# EAGLE library part VREG-RECOM-R-78A05-1-SMD (library vreg-recom-r-78a05-1-smd)
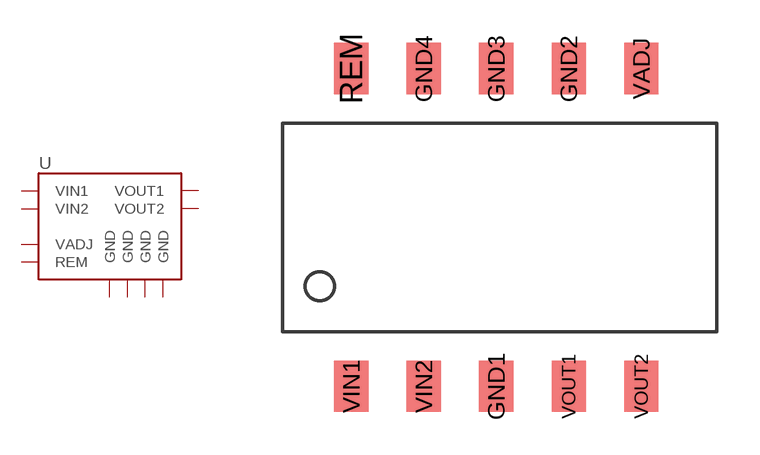
[diagram p0: symbol with the pads of VREG-RECOM-78A05-1-SMD; footprint VREG-RECOM-78A05-1-SMD]

Designator prefix -

## VREG-RECOM-R-78A05-1-SMD  [VREG-RECOM-78A05-1-SMD]
GND1  GND
GND2  GND
GND3  GND
GND4  GND
REM  REM
VADJ  VADJ
VIN1  VIN1
VIN2  VIN2
VOUT1  VOUT1
VOUT2  VOUT2

## Footprint VREG-RECOM-78A05-1-SMD (pad centres in mm)
smd 1.2 x 1.8: GND1 0.18,-6.5; GND2 2.72,4.62; GND3 0.18,4.62; GND4 -2.36,4.62; REM -4.9,4.62; VADJ 5.26,4.62; VIN1 -4.9,-6.5; VIN2 -2.36,-6.5; VOUT1 2.72,-6.5; VOUT2 5.26,-6.5